# Altium schematic symbol library Binder.SchLib: 10 symbols
Pins are listed as number, name and electrical type; pins without a type are passive.

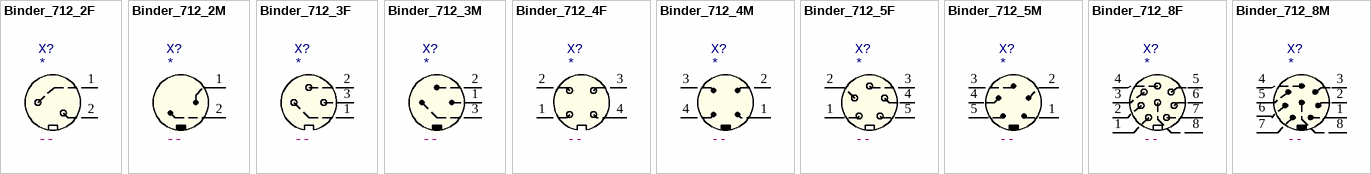
[diagram p0: symbols Binder_712_2F to Binder_712_8M]

## Binder_712_2F
designator X?
Binder 712 2F; ERP: --
pins: 1, 2

## Binder_712_2M
designator X?
Binder 712 2M; ERP: --
pins: 1, 2

## Binder_712_3F
designator X?
Binder 712 3F; ERP: --
pins: 1, 2, 3

## Binder_712_3M
designator X?
Binder 712 3M; ERP: --
pins: 1, 2, 3

## Binder_712_4F
designator X?
Binder 712 4F; ERP: --
pins: 1, 2, 3, 4

## Binder_712_4M
designator X?
Binder 712 4M; ERP: --
pins: 1, 2, 3, 4

## Binder_712_5F
designator X?
Binder 712 5F; ERP: --
pins: 1, 2, 3, 4, 5

## Binder_712_5M
designator X?
Binder 712 5M; ERP: --
pins: 1, 2, 3, 4, 5

## Binder_712_8F
designator X?
Binder 712 8F; ERP: --
pins: 1, 2, 3, 4, 5, 6, 7, 8

## Binder_712_8M
designator X?
Binder 712 8M; ERP: --
pins: 1, 2, 3, 4, 5, 6, 7, 8